# Altium footprint library Capacitors.PcbLib: 25 footprints (part 2 of 2)
Each footprint in its own frame and in the unit in brackets; x right, y up, seen from the top. Pads: shape width x height; smd on the part's side, far side on the other; paste and mask are expansions set on the pad; w line width, h text height; cw(c..) or ccw(c..) is an arc to the next point about the centre after c.
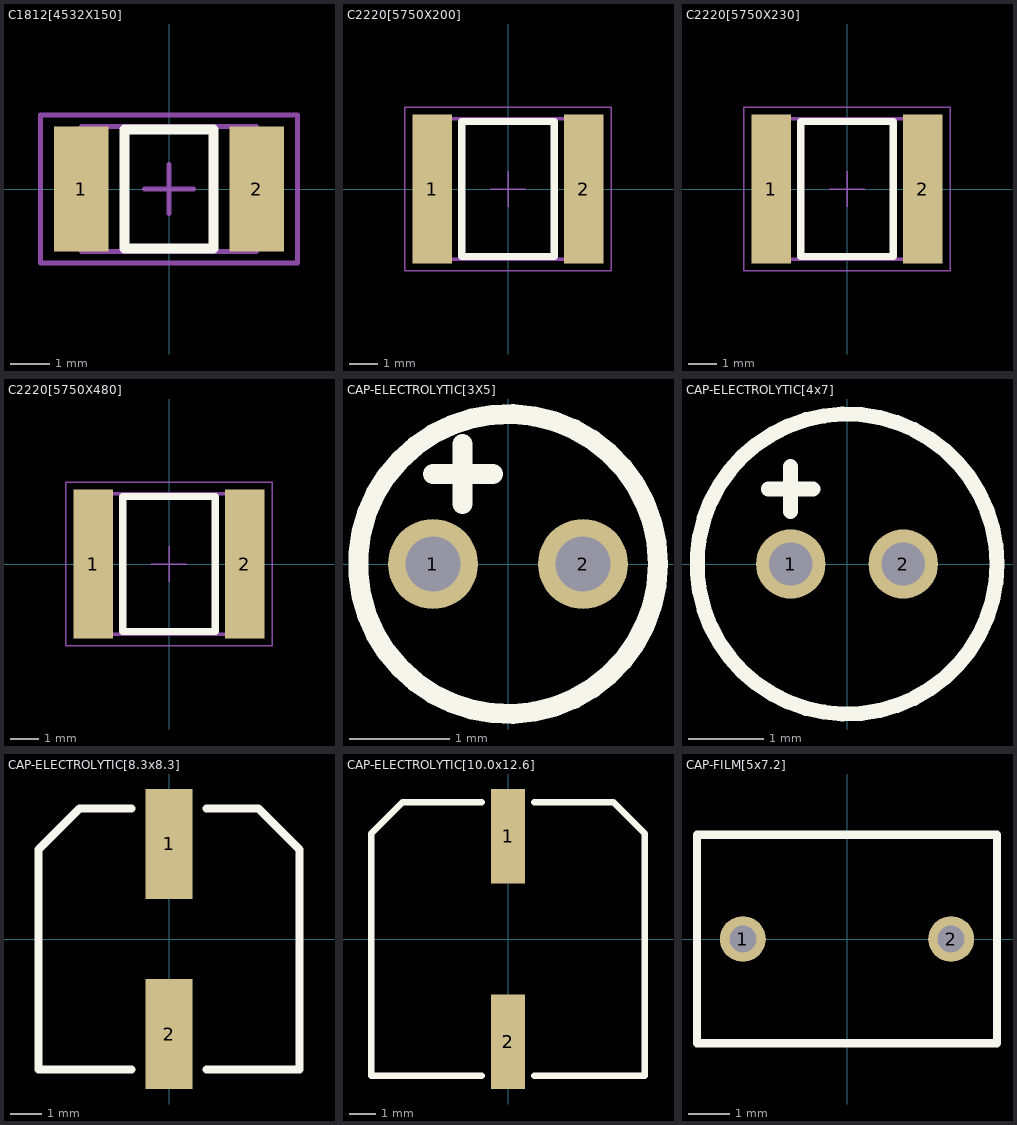
[diagram p1: the footprints below, top view; thin cyan lines are the x and y axes]

## C1812[4532X150] [mm] "Chip Capacitor, Body 4.5x3.2mm"
height 1.5
pads (2):
  rect 1.4x3.2 smd: 1(-2.25,0) 2(2.25,0)
Top Overlay:
  lines w0.254: -1.143,-1.524 -1.143,1.524 1.143,1.524 1.143,-1.524 -1.143,-1.524
Mechanical 2:
  lines w0.127: -0.635,0 0.635,0 ; 0,-0.635 0,0.635 ; -3.302,-1.905 3.302,-1.905 3.302,1.905 -3.302,1.905 -3.302,-1.905
Mechanical 3:
  lines w0.127: -2.25,-1.6 2.25,-1.6 2.25,1.6 -2.25,1.6 -2.25,-1.6
3D body "CAPC4532X150N CDR34.step": height 1.51, standoff 0.01, extent -2.25,-1.6 2.25,1.6

## C2220[5750X200] [mm] "Chip Capacitor, Body 5.7x5.0mm"
height 2
pads (2):
  rect 1.4x5.3 smd: 1(-2.7,0) 2(2.7,0)
Top Overlay:
  lines w0.254: -1.651,-2.413 -1.651,2.413 1.651,2.413 1.651,-2.413 -1.651,-2.413
Mechanical 2:
  lines w0.051: -0.635,0 0.635,0 ; 0,-0.635 0,0.635 ; -3.683,-2.921 3.683,-2.921 3.683,2.921 -3.683,2.921 -3.683,-2.921
Mechanical 3:
  lines w0.127: -2.85,-2.5 2.85,-2.5 2.85,2.5 -2.85,2.5 -2.85,-2.5
3D body "CAPC5750X200N EIA 2220.step": height 2.01, standoff 0.01, extent -2.85,-2.5 2.85,2.5

## C2220[5750X230] [mm] "Chip Capacitor, Body 5.7x5.0mm"
height 2
pads (2):
  rect 1.4x5.3 smd: 1(-2.7,0) 2(2.7,0)
Top Overlay:
  lines w0.254: -1.651,-2.413 1.651,-2.413 1.651,2.413 -1.651,2.413 -1.651,-2.413
Mechanical 2:
  lines w0.051: -0.635,0 0.635,0 ; 0,-0.635 0,0.635 ; -3.683,-2.921 -3.683,2.921 3.683,2.921 3.683,-2.921 -3.683,-2.921
Mechanical 3:
  lines w0.127: -2.85,-2.5 -2.85,2.5 2.85,2.5 2.85,-2.5 -2.85,-2.5
3D body "CAPC5750X230N EIA 2220.step": height 2.29, standoff -0.01, extent -2.85,-2.5 2.85,2.5

## C2220[5750X480] [mm] "Chip Capacitor, Body 5.7x5.0mm"
height 2
pads (2):
  rect 1.4x5.3 smd: 1(-2.7,0) 2(2.7,0)
Top Overlay:
  lines w0.254: -1.651,-2.413 1.651,-2.413 1.651,2.413 -1.651,2.413 -1.651,-2.413
Mechanical 2:
  lines w0.051: -0.635,0 0.635,0 ; 0,-0.635 0,0.635 ; -3.683,-2.921 -3.683,2.921 3.683,2.921 3.683,-2.921 -3.683,-2.921
Mechanical 3:
  lines w0.127: -2.85,-2.5 -2.85,2.5 2.85,2.5 2.85,-2.5 -2.85,-2.5
3D body "CAPC5750X230N EIA 2220.step": height 4.58, standoff 2.28, extent -2.85,-2.5 2.85,2.5
3D body "CAPC5750X230N EIA 2220.step": height 2.29, standoff -0.01, extent -2.85,-2.5 2.85,2.5

## CAP-ELECTROLYTIC[3X5] [mm]
pads (2):
  round 0.9 hole 0.55: 1(-0.75,0) 2(0.75,0)
Top Overlay:
  circle w0.2: c0,0 r1.5
  lines w0.2: -0.75,0.9 -0.15,0.9 ; -0.455,0.598 -0.455,1.198
3D body: height 5, standoff 0, extent -1.488,-1.497 1.5,1.497

## CAP-ELECTROLYTIC[4x7] [mm]
pads (2):
  round 0.925 hole 0.575: 1(-0.75,0) 2(0.75,0)
Top Overlay:
  circle w0.2: c0,0 r2
  lines w0.2: -1.05,1 -0.45,1 ; -0.755,0.698 -0.755,1.298
3D body: height 7, standoff 0, extent -2,-2 2,2

## CAP-ELECTROLYTIC[8.3x8.3] [mm]
pads (2):
  rect 1.5x3.5 smd: 1(0,3.025) 2(0,-3.025)
Top Overlay:
  lines w0.254: -1.2,-4.15 -4.15,-4.15 -4.15,2.85 -2.85,4.15 -1.2,4.15 ; 1.2,-4.15 4.15,-4.15 4.15,2.85 2.85,4.15 1.2,4.15
3D body "CHEMI-HC0.step": height 12.04, standoff 0, extent -4.153,-4.496 4.153,4.496

## CAP-ELECTROLYTIC[10.0x12.6] [mm]
pads (2):
  rect 1.3x3.6 smd: 1(0,3.9) 2(0,-3.9)
Top Overlay:
  lines w0.254: -1,-5.2 -5.2,-5.2 -5.2,4 -4,5.2 -1,5.2 ; 1,-5.2 5.2,-5.2 5.2,4 4,5.2 1,5.2
3D body "NICHICON_UWT1H221MNL1GS.STEP": height 10.2, standoff 0, extent -5.2,-5.451 5.1,5.449

## CAP-FILM[5x7.2] [mm]
pads (2):
  round 1.1 hole 0.65: 1(-2.5,0) 2(2.5,0)
Top Overlay:
  lines w0.2: -3.6,-2.5 3.6,-2.5 3.6,2.5 -3.6,2.5 -3.6,-2.5
3D body: height 10, standoff 0, extent -3.6,-2.5 3.6,2.5